# Altium footprint library My_Library.PcbLib: 22 footprints (part 2 of 2)
Each footprint in its own frame and in the unit in brackets; x right, y up, seen from the top. Pads: shape width x height; smd on the part's side, far side on the other; paste and mask are expansions set on the pad; w line width, h text height; cw(c..) or ccw(c..) is an arc to the next point about the centre after c.
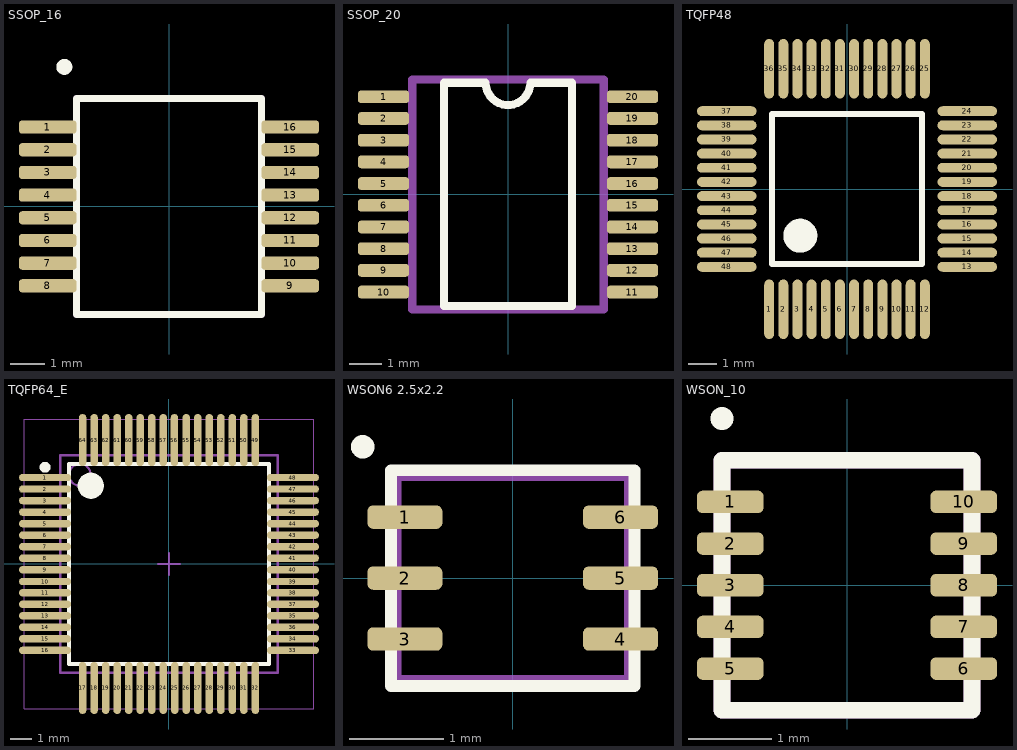
[diagram p1: the footprints below, top view; thin cyan lines are the x and y axes]

## SSOP_16 [mm] "6.2x5.3mm,16pins,0.65x14"
height 1
pads (16):
  rrect50% 1.65x0.38 smd: 1(-3.475,2.275) 2(-3.475,1.625) 3(-3.475,0.975) 4(-3.475,0.325) 5(-3.475,-0.325) 6(-3.475,-0.975) 7(-3.475,-1.625) 8(-3.475,-2.275) 9(3.475,-2.275) 10(3.475,-1.625) 11(3.475,-0.975) 12(3.475,-0.325) 13(3.475,0.325) 14(3.475,0.975) 15(3.475,1.625) 16(3.475,2.275)
Top Overlay:
  circle w0.254: c-3,4 r0.1
  lines w0.2: -2.65,-3.1 2.65,-3.1 2.65,3.1 -2.65,3.1 -2.65,-3.1
Mechanical 1:
  lines w0.2: -2.65,-3.1 2.65,-3.1 2.65,0.45 2.65,3.1 -2.65,3.1 -2.65,-3.1

## SSOP_20 [mm] "SSOP_20"
height 2
pads (20):
  rrect50% 1.6x0.4 smd: 1(-3.9,3.06) 2(-3.9,2.38) 3(-3.9,1.7) 4(-3.9,1.02) 5(-3.9,0.34) 6(-3.9,-0.34) 7(-3.9,-1.02) 8(-3.9,-1.7) 9(-3.9,-2.38) 10(-3.9,-3.06) 11(3.9,-3.06) 12(3.9,-2.38) 13(3.9,-1.7) 14(3.9,-1.02) 15(3.9,-0.34) 16(3.9,0.34) 17(3.9,1.02) 18(3.9,1.7) 19(3.9,2.38) 20(3.9,3.06)
Top Overlay:
  lines w0.254: -2,-3.5 -2,3.5 -0.7,3.5 ccw(c0,3.5) 0.7,3.5 2,3.5 2,-3.5 -2,-3.5
Mechanical 1:
  lines w0.254: -3,-3.6 -3,3.6 3,3.6 3,-3.6 -3,-3.6
3D body "User Library-SSOP 20 PIN-1.step": height 1.78, standoff -0.21, extent -3.95,-3.665 3.95,3.665

## TQFP48 [mm] "7x7mm"
pads (48):
  oval 0.35x2.1 smd: 1(-2.75,-4.251) 2(-2.25,-4.251) 3(-1.75,-4.251) 4(-1.25,-4.251) 5(-0.75,-4.251) 6(-0.25,-4.251) 7(0.25,-4.251) 8(0.75,-4.251) 9(1.25,-4.251) 10(1.75,-4.251) 11(2.25,-4.251) 12(2.75,-4.251) 25(2.75,4.251) 26(2.25,4.251) 27(1.75,4.251) 28(1.25,4.251) 29(0.75,4.251) 30(0.25,4.251) 31(-0.25,4.251) 32(-0.75,4.251) 33(-1.25,4.251) 34(-1.75,4.251) 35(-2.25,4.251) 36(-2.75,4.251)
  oval 2.1x0.35 smd: 13(4.251,-2.75) 14(4.251,-2.25) 15(4.251,-1.75) 16(4.251,-1.25) 17(4.251,-0.75) 18(4.251,-0.25) 19(4.251,0.25) 20(4.251,0.75) 21(4.251,1.25) 22(4.251,1.75) 23(4.251,2.25) 24(4.251,2.75) 37(-4.251,2.75) 38(-4.251,2.25) 39(-4.251,1.75) 40(-4.251,1.25) 41(-4.251,0.75) 42(-4.251,0.25) 43(-4.251,-0.25) 44(-4.251,-0.75) 45(-4.251,-1.25) 46(-4.251,-1.75) 47(-4.251,-2.25) 48(-4.251,-2.75)
Top Overlay:
  circle w0.6: c-1.65,-1.65 r0.3
  lines w0.2: -2.65,-2.65 -2.65,2.65 2.65,2.65 2.65,-2.65 -2.65,-2.65
3D body "TQFP48 7x7.STEP": height 1.05, standoff 0, extent -4.502,-4.508 4.502,4.496

## TQFP64_E [mm] "SQFP, 64-Leads, Body 10.00x10.00mm, Pitch 0.50mm, IPC Medium Density"
height 1
pads (64):
  oval 2.4x0.34 smd: 1(-5.7,3.975) 2(-5.7,3.445) 3(-5.7,2.915) 4(-5.7,2.385) 5(-5.7,1.855) 6(-5.7,1.325) 7(-5.7,0.795) 8(-5.7,0.265) 9(-5.7,-0.27) 10(-5.7,-0.81) 11(-5.7,-1.325) 12(-5.7,-1.855) 13(-5.7,-2.385) 14(-5.7,-2.915) 15(-5.7,-3.445) 16(-5.7,-3.975) 33(5.7,-3.975) 34(5.7,-3.445) 35(5.7,-2.385) 36(5.7,-2.915) 37(5.7,-1.855) 38(5.7,-1.325) 39(5.7,-0.81) 40(5.7,-0.27) 41(5.7,0.27) 42(5.7,0.795) 43(5.7,1.325) 44(5.7,1.855) 45(5.7,2.385) 46(5.7,2.915) 47(5.7,3.445) 48(5.7,3.975)
  oval 0.34x2.4 smd: 17(-3.975,-5.703) 18(-3.445,-5.703) 19(-2.915,-5.703) 20(-2.385,-5.703) 21(-1.855,-5.703) 22(-1.325,-5.703) 23(-0.795,-5.703) 24(-0.265,-5.703) 25(0.265,-5.703) 26(0.795,-5.703) 27(1.325,-5.703) 28(1.855,-5.703) 29(2.385,-5.703) 30(2.915,-5.703) 31(3.445,-5.703) 32(3.975,-5.703) 49(3.975,5.697) 50(3.445,5.697) 51(2.915,5.697) 52(2.385,5.697) 53(1.855,5.697) 54(1.325,5.697) 55(0.795,5.697) 56(0.25,5.697) 57(-0.265,5.697) 58(-0.795,5.697) 59(-1.325,5.697) 60(-1.855,5.697) 61(-2.385,5.697) 62(-2.915,5.697) 63(-3.445,5.697) 64(-3.975,5.697)
Top Overlay:
  circle w0.25: c-5.7,4.447 r0.125
  circle w0.6: c-3.6,3.597 r0.3
  lines w0.2: -4.6,-4.603 -4.6,4.597 4.6,4.597 4.6,-4.603 -4.6,-4.603
Mechanical 13:
  circle w0.1: c-4.1,4.097 r0.5
  lines w0.1: -5,-5.003 -5,4.997 5,4.997 5,-5.003 -5,-5.003
Mechanical 15:
  lines w0.05: -6.65,-6.653 -6.65,6.647 6.65,6.647 6.65,-6.653 -6.65,-6.653
  lines w0.1: -0.5,-0.003 0.5,-0.003 ; 0,-0.503 0,0.497
3D body "User Library-TQFP64-2.STEP": height 1.23, standoff 0.03, extent -6.1,-6.1 6.1,6.1

## WSON6 2.5x2.2 [mm]
height 0.8
pads (6):
  rrect50% 0.8x0.25 smd: 1(-1.15,0.65) 2(-1.15,0) 3(-1.15,-0.65) 4(1.15,-0.65) 5(1.15,0) 6(1.15,0.65)
Top Overlay:
  circle w0.15: c-1.6,1.4 r0.05
  lines w0.127: -1.3,-1.15 -1.3,1.15 1.3,1.15 1.3,-1.15 -1.3,-1.15
Mechanical 1:
  region: -0.375,0.6
  region: -0.375,0.6
  region: 0,0.6
  lines w0.127: -1.25,-1.1 -1.25,1.1 1.25,1.1 1.25,-1.1 -1.25,-1.1
3D body: height 0.25, standoff 0, extent -1.25,1.1 -1.25,1.1
3D body: height 0.25, standoff 0, extent -1.25,1.15 -1.25,1.15
3D body "User Library-wson6-drv.step": height 0.8, standoff 0, extent -1.01,-1 1.01,1

## WSON_10 [mm] "3*3mm,10pins,0.5x8"
height 1
pads (10):
  rrect50% 0.8x0.27 smd: 1(-1.4,1) 2(-1.4,0.5) 3(-1.4,0) 4(-1.4,-0.5) 5(-1.4,-1) 6(1.4,-1) 7(1.4,-0.5) 8(1.4,0) 9(1.4,0.5) 10(1.4,1)
Top Overlay:
  circle w0.254: c-1.5,2 r0.01
  lines w0.2: -1.5,-1.5 1.5,-1.5 1.5,1.5 -1.5,1.5 -1.5,-1.5
Mechanical 1:
  lines w0.2: -1.5,-1.5 1.5,-1.5 1.5,1.5 -1.5,1.5 -1.5,-1.5